# EAGLE library part NV08C-CSM (library nvs-tech)
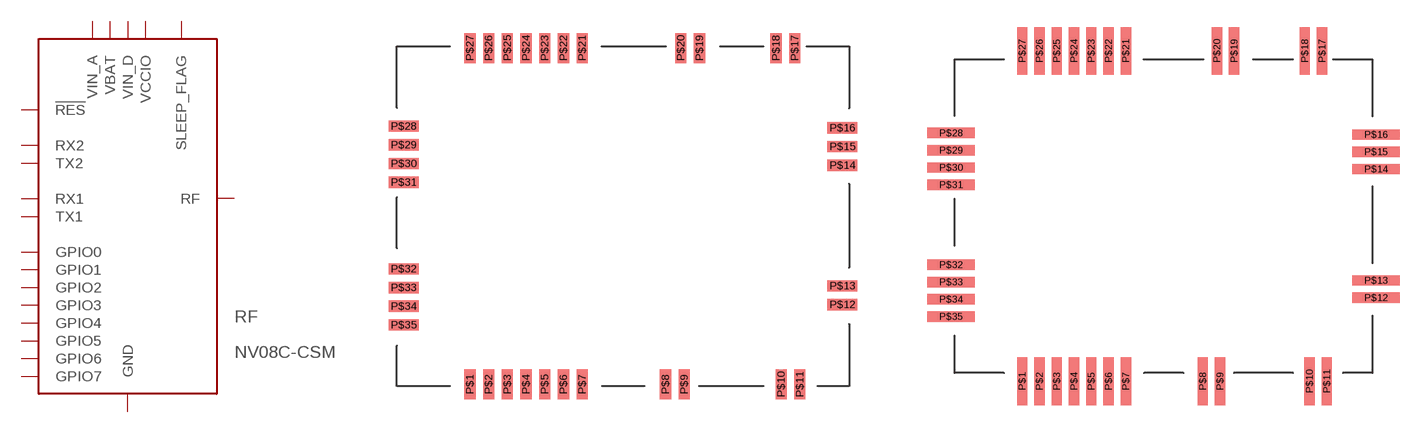
[diagram p0: symbol with the pads of NV08C-CSM-REFLOW; footprints NV08C-CSM-REFLOW, NVC08C-CSM-HAND]

Designator prefix RF

## NV08C-CSMREFLOW  [NV08C-CSM-REFLOW]
P$1  GPIO2
P$2  GPIO1
P$3  GND  pwr
P$4  GPIO5
P$5  GPIO7
P$6  GPIO3
P$7  GPIO4
P$8  VIN_A  pwr
P$9  GND  pwr
P$10  GND  pwr
P$11  GND  pwr
P$12  GND  pwr
P$13  GND  pwr
P$14  GND  pwr
P$15  RF  in
P$16  GND  pwr
P$17  GND  pwr
P$18  GND  pwr
P$19  GND  pwr
P$20  GPIO0
P$21  SLEEP_FLAG  out
P$22  GND  pwr
P$23  VBAT  pwr
P$24  GND  pwr
P$25  !RES  in
P$26  VIN_D  pwr
P$27  GND  pwr
P$28  VCCIO  pwr
P$29  GND  pwr
P$30  RX2  in
P$31  TX2  out
P$32  TX1  out
P$33  RX1  in
P$34  GND  pwr
P$35  GPIO6

## NV08C-CSMHAND  [NVC08C-CSM-HAND]
Pads as for NV08C-CSM-REFLOW

## Footprint NV08C-CSM-REFLOW (pad centres in mm)
smd 0.66 x 1.778: P$1 -9,-9.9; P$2 -7.9,-9.9; P$3 -6.8,-9.9; P$4 -5.7,-9.9; P$5 -4.6,-9.9; P$6 -3.5,-9.9; P$7 -2.4,-9.9; P$8 2.5,-9.9; P$9 3.6,-9.9; P$10 9.3,-9.9; P$11 10.4,-9.9; P$17 10.1,9.9; P$18 9,9.9; P$19 4.5,9.9; P$20 3.4,9.9; P$21 -2.4,9.9; P$22 -3.5,9.9; P$23 -4.6,9.9; P$24 -5.7,9.9; P$25 -6.8,9.9; P$26 -7.9,9.9; P$27 -9,9.9
smd 1.778 x 0.66: P$12 12.9,-5.2; P$13 12.9,-4.1; P$14 12.9,3; P$15 12.9,4.1; P$16 12.9,5.2; P$28 -12.9,5.3; P$29 -12.9,4.2; P$30 -12.9,3.1; P$31 -12.9,2; P$32 -12.9,-3.1; P$33 -12.9,-4.2; P$34 -12.9,-5.3; P$35 -12.9,-6.4

## Footprint NVC08C-CSM-HAND (pad centres in mm)
smd 0.66 x 3.048: P$1 -9,-10.535; P$2 -7.9,-10.535; P$3 -6.8,-10.535; P$4 -5.7,-10.535; P$5 -4.6,-10.535; P$6 -3.5,-10.535; P$7 -2.4,-10.535; P$8 2.5,-10.535; P$9 3.6,-10.535; P$10 9.3,-10.535; P$11 10.4,-10.535; P$17 10.1,10.535; P$18 9,10.535; P$19 4.5,10.535; P$20 3.4,10.535; P$21 -2.4,10.535; P$22 -3.5,10.535; P$23 -4.6,10.535; P$24 -5.7,10.535; P$25 -6.8,10.535; P$26 -7.9,10.535; P$27 -9,10.535
smd 3.048 x 0.66: P$12 13.535,-5.2; P$13 13.535,-4.1; P$14 13.535,3; P$15 13.535,4.1; P$16 13.535,5.2; P$28 -13.535,5.3; P$29 -13.535,4.2; P$30 -13.535,3.1; P$31 -13.535,2; P$32 -13.535,-3.1; P$33 -13.535,-4.2; P$34 -13.535,-5.3; P$35 -13.535,-6.4